# EAGLE library part AD1983 (library FreeSmartEEG)
HD Audio SoundMAX® Codec Auto generated by make-symbol-device-package-bsdl.ulp Rev. 33 Source: http://www.analog.com/static/imported-files/data_sheets/AD1983.pdf
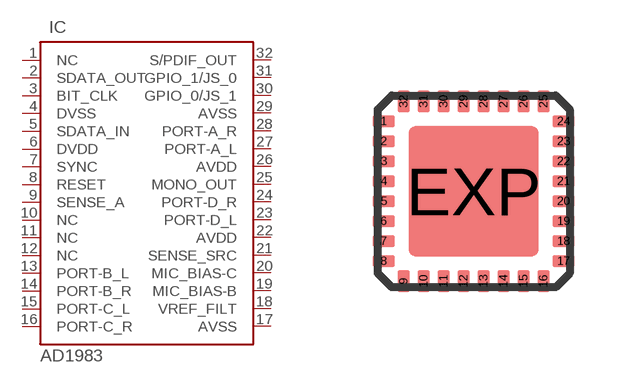
[diagram p80: symbol with the pads of LFCSP32; footprint LFCSP32]

Designator prefix IC

## AD1983 (OC_FARNELL: unknown; OC_NEWARK: unknown)  [LFCSP32]
1  NC  nc
2  SDATA_OUT  in
3  BIT_CLK  in
4  DVSS  pwr
5  SDATA_IN
6  DVDD  pwr
7  SYNC  in
8  RESET  in
9  SENSE_A  in
10  NC  nc
11  NC  nc
12  NC  nc
13  PORT-B_L  in
14  PORT-B_R  in
15  PORT-C_L  in
16  PORT-C_R  in
17  AVSS  pwr
18  VREF_FILT  out
19  MIC_BIAS-B  out
20  MIC_BIAS-C  out
21  SENSE_SRC  out
22  AVDD  pwr
23  PORT-D_L  out
24  PORT-D_R  out
25  MONO_OUT  out
26  AVDD  in
27  PORT-A_L  out
28  PORT-A_R  out
29  AVSS  pwr
30  GPIO_0/JS_1
31  GPIO_1/JS_0
32  S/PDIF_OUT  out

## Footprint LFCSP32 (pad centres in mm)
32-Lead Frame Chip Scale Package [LFCSP_VQ] 5 mm × 5 mm Very Thin Quad (CP-32-3 COMPLIANT TO JEDEC STANDARDS MO-220-VHHD-2 Source: http://www.analog.com/UploadedFiles/Data_Sheets/762180021AD7142_42_1_prd.pdf
smd 0.55 x 0.3: 1 -2.25,1.75; 2 -2.25,1.25; 3 -2.25,0.75; 4 -2.25,0.25; 5 -2.25,-0.25; 6 -2.25,-0.75; 7 -2.25,-1.25; 8 -2.25,-1.75; 17 2.25,-1.75; 18 2.25,-1.25; 19 2.25,-0.75; 20 2.25,-0.25; 21 2.25,0.25; 22 2.25,0.75; 23 2.25,1.25; 24 2.25,1.75
smd 0.3 x 0.55: 9 -1.75,-2.25; 10 -1.25,-2.25; 11 -0.75,-2.25; 12 -0.25,-2.25; 13 0.25,-2.25; 14 0.75,-2.25; 15 1.25,-2.25; 16 1.75,-2.25; 25 1.75,2.25; 26 1.25,2.25; 27 0.75,2.25; 28 0.25,2.25; 29 -0.25,2.25; 30 -0.75,2.25; 31 -1.25,2.25; 32 -1.75,2.25
smd 3.25 x 3.25: EXP 0,0